# Altium schematic symbol library G3MB-202P-4_DC5.SchLib: 1 symbol
Pins are listed as number, name and electrical type; pins without a type are passive.

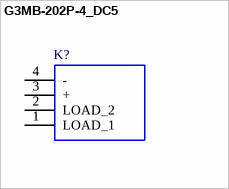
[diagram p0: symbol G3MB-202P-4_DC5]

## G3MB-202P-4_DC5
designator K?
Solid State Relays - PCB Mount 2A 100-240VAC Output 5VDC 5.08mm; Manufacturer_Name: Omron Electronics; Manufacturer_Part_Number: G3MB-202P-4 DC5; Geometry.Height: 20.5mm; Mouser Part Number: 653-G3MB-202P4DC5; Mouser Price/Stock: https://www.mouser.co.uk/ProductDetail/Omron-Automation-and-Safety/G3MB-202P-4-DC5?qs=Z0CfnKMjtWg7MIsv3RC0Aw%3D%3D; Arrow Part Number: *; Arrow Price/Stock: *; Mouser Testing Part Number: *; Mouser Testing Price/Stock: *; Datasheet Link: https://componentsearchengine.com/Datasheets/1/G3MB-202P-4 DC5.pdf
footprint G3MB202P4DC5
pins: 1 LOAD_1, 2 LOAD_2, 3 +, 4 -